# Altium schematic symbol library 16Z.SCHLIB: 43 symbols
Pins are listed as number, name and electrical type; pins without a type are passive.

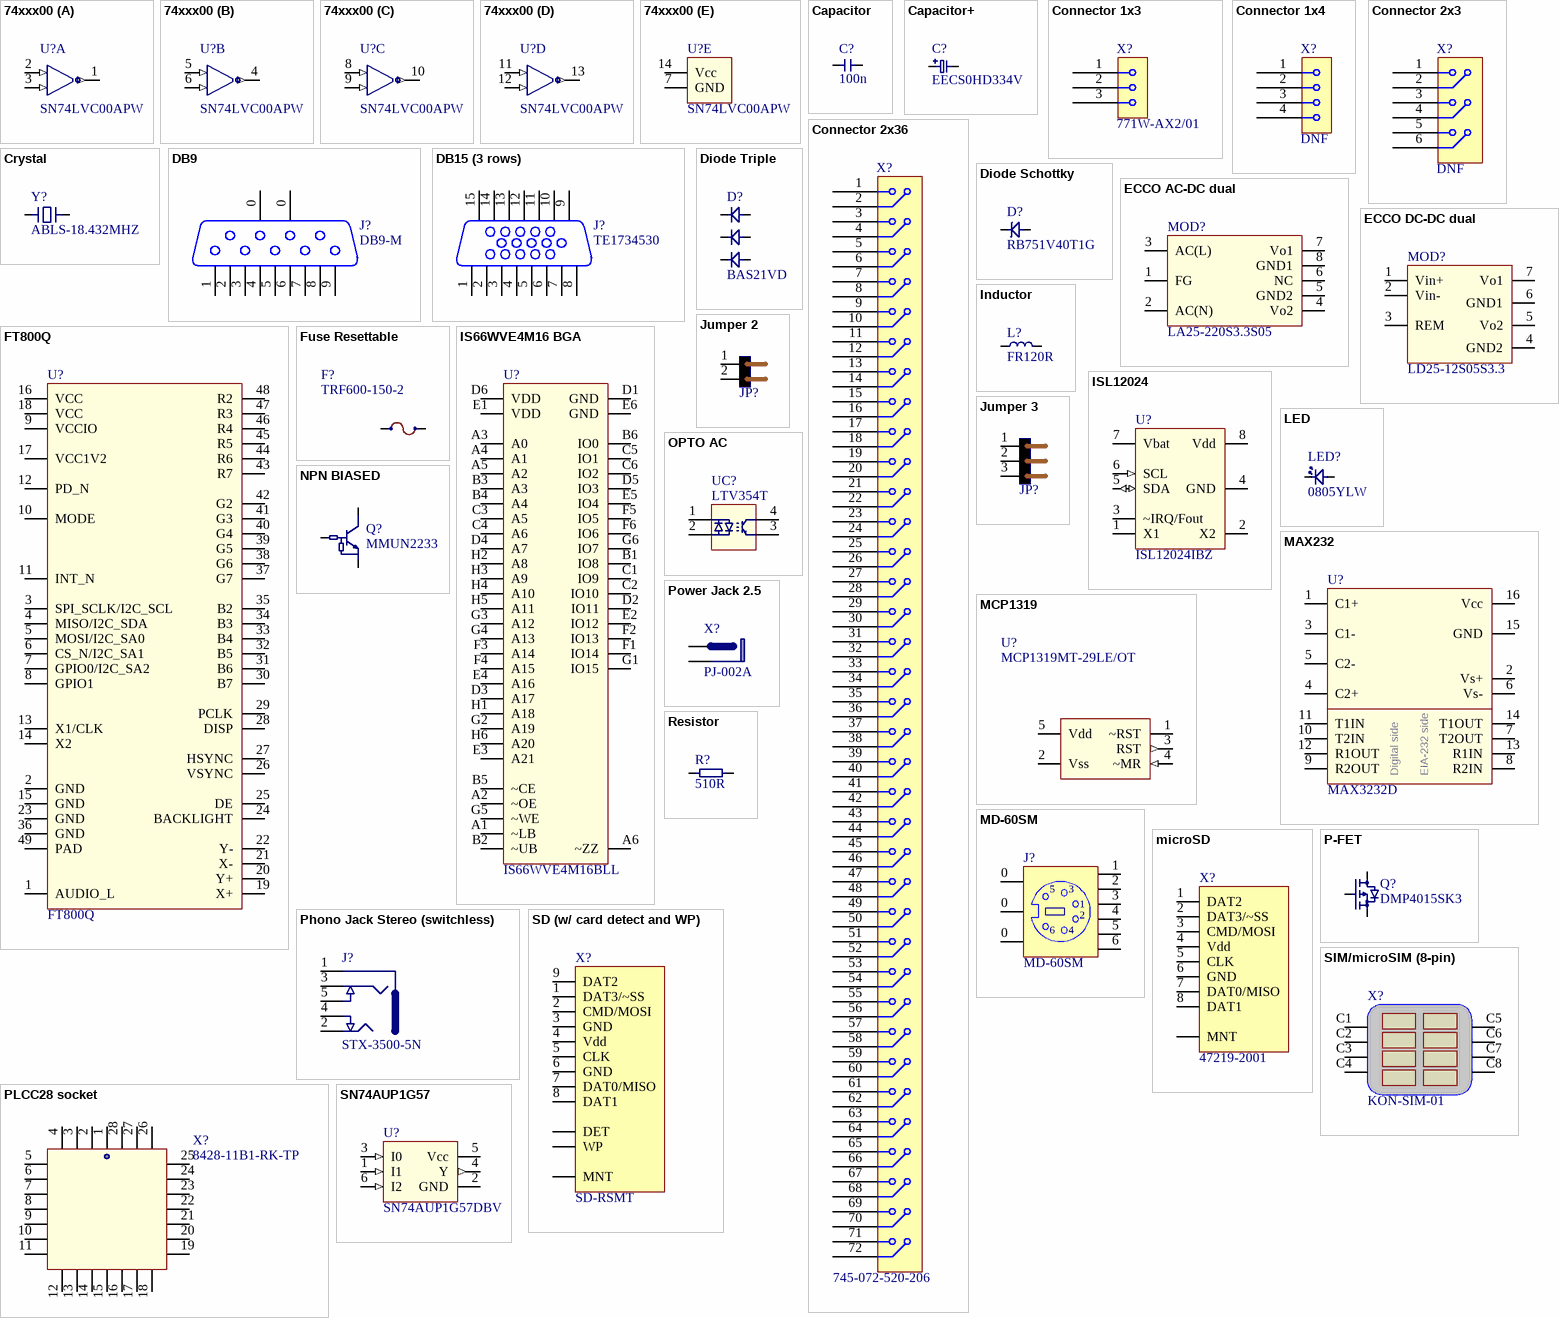
[diagram p0: symbols 74xxx00 to SN74AUP1G57]

## 74xxx00
designator U?, comment SN74LVC00APW
Quad NAND
footprint DIP14
footprint SOIC127P600-14N
footprint TSOP65P640-14N
part A pins: 1 (out), 2 (in), 3 (in)
part B pins: 4 (out), 5 (in), 6 (in)
part C pins: 8 (in), 9 (in), 10 (out)
part D pins: 11 (in), 12 (in), 13 (out)
part E pins: 7 GND, 14 Vcc

## Capacitor
designator C?, comment 100n
Capacitor
footprint _1206
footprint _0805
pins: 1, 2

## Capacitor+
designator C?, comment EECS0HD334V
Polar capacitor
footprint D10.5 x L5.5 (Cylindric capacitor)
pins: 1, 2
1 alternate drawing of the same symbol

## Connector 1x3
designator X?, comment 771W-AX2/01
Single row, 3-way connector
footprint 771W-AX2/01 (AC IEC connector)
pins: 1, 2, 3

## Connector 1x4
designator X?, comment DNF
Single row, 4-way connector
footprint 2011-1X04S (2011-1X04 Straight Pin Header)
pins: 1, 2, 3, 4

## Connector 2x3
designator X?, comment DNF
Dual row, 6-way connector
footprint 2011-2X03S (2011-2X03 Straight Pin Header)
pins: 1, 2, 3, 4, 5, 6

## Connector 2x36
designator X?, comment 745-072-520-206
Dual row, 72-way connector
footprint 745-072-520-206 (72-pin board edge slot)
pins: 1, 2, 3, 4, 5, 6, 7, 8, 9, 10, 11, 12, 13, 14, 15, 16, 17, 18, 19, 20, 21, 22, 23, 24, 25, 26, 27, 28, 29, 30, 31, 32, 33, 34, 35, 36, 37, 38, 39, 40, 41, 42, 43, 44, 45, 46, 47, 48, 49, 50, 51, 52, 53, 54, 55, 56, 57, 58, 59, 60, 61, 62, 63, 64, 65, 66, 67, 68, 69, 70, 71, 72

## Crystal
designator Y?, comment ABLS-18.432MHZ
Crystal Resonator
footprint HC49/SMT (Standard HC49/SMT footprint)
pins: 1, 2

## DB9
designator J?, comment DB9-M
DB9 connector
footprint DB9M R/A (9 Pin Male D-Sub Right Angle, Through hole Mounting)
pins: 0, 0, 1, 2, 3, 4, 5, 6, 7, 8, 9

## DB15 (3 rows)
designator J?, comment TE1734530
DB15 (3 rows) connector R/A
footprint DB15F R/A VGA (DB15F-VGA connector (TE 1734530))
pins: 1, 2, 3, 4, 5, 6, 7, 8, 9, 10, 11, 12, 13, 14, 15

## Diode Schottky
designator D?, comment RB751V40T1G
Schottky diode
footprint SOD-323 (MicroMELF)
pins: 1, 2

## Diode Triple
designator D?, comment BAS21VD
Diode (triple)
footprint SOT23-6 (SOT23-6 Package)
pins: 1, 2, 3, 4, 5, 6

## ECCO AC-DC dual
designator MOD?, comment LA25-220S3.3S05
Miniature AC/DC module; Manufacturer: ECCO; Options: 3V3, 5V, 6V, 9V, 12V, 15V, 18V, 24V, 48V; URL: www.eccoelec.com
footprint ECCO AC-DC (70x48) (AC/DC converter)
pins: 1 FG (power), 2 AC(N) (power), 3 AC(L) (power), 4 Vo2 (power), 5 GND2 (power), 6 NC (power), 7 Vo1 (power), 8 GND1 (power)

## ECCO DC-DC dual
designator MOD?, comment LD25-12S05S3.3
DC-DC converter isolated output with common ground and control; URL: www.eccoelec.com
footprint DC-DC (50.8x50.8) (DC-DC converter)
pins: 1 Vin+ (power), 2 Vin- (power), 3 REM, 4 GND2, 5 Vo2 (power), 6 GND1 (power), 7 Vo1 (power)

## FT800Q
designator U?
Embedded Video Engine; Manufacturer: FTDI; URL: http://www.ftdichip.com/EVE.htm
footprint QFN50P700X700-48W2N
pins: 1 AUDIO_L, 2 GND, 3 SPI_SCLK/I2C_SCL, 4 MISO/I2C_SDA, 5 MOSI/I2C_SA0, 6 CS_N/I2C_SA1, 7 GPIO0/I2C_SA2, 8 GPIO1, 9 VCCIO, 10 MODE, 11 INT_N, 12 PD_N, 13 X1/CLK, 14 X2, 15 GND, 16 VCC, 17 VCC1V2, 18 VCC, 19 X+, 20 Y+, 21 X-, 22 Y-, 23 GND, 24 BACKLIGHT, 25 DE, 26 VSYNC, 27 HSYNC, 28 DISP, 29 PCLK, 30 B7, 31 B6, 32 B5, 33 B4, 34 B3, 35 B2, 36 GND, 37 G7, 38 G6, 39 G5, 40 G4, 41 G3, 42 G2, 43 R7, 44 R6, 45 R5, 46 R4, 47 R3, 48 R2, 49 PAD

## Fuse Resettable
designator F?, comment TRF600-150-2
footprint Fuse 5.1mm pitch (Resettable fuse 5.1mm pitch)
pins: 1, 2

## Inductor
designator L?, comment FR120R
Inductor
footprint _0805
pins: 1, 2

## IS66WVE4M16 BGA
designator U?, comment IS66WVE4M16BLL
4M x 16 high speed asynchronous pseudostatic RAM; Suffix: BLL (BGA, high-speed); BLS (BGA, low-power)
footprint BGA75P6X8-48
pins: A1 ~LB, A2 ~OE, A3 A0, A4 A1, A5 A2, A6 ~ZZ, B1 IO8, B2 ~UB, B3 A3, B4 A4, B5 ~CE, B6 IO0, C1 IO9, C2 IO10, C3 A5, C4 A6, C5 IO1, C6 IO2, D1 GND, D2 IO11, D3 A17, D4 A7, D5 IO3, D6 VDD, E1 VDD, E2 IO12, E3 A21, E4 A16, E5 IO4, E6 GND, F1 IO14, F2 IO13, F3 A14, F4 A15, F5 IO5, F6 IO6, G1 IO15, G2 A19, G3 A12, G4 A13, G5 ~WE, G6 IO7, H1 A18, H2 A8, H3 A9, H4 A10, H5 A11, H6 A20

## ISL12024
designator U?, comment ISL12024IBZ
Real-Time Clock/Calendar with Embedded  Unique ID; Manufacturer: Intersil; Pin-compatible: ISL12026
footprint SOIC8 (SOIC8 Package)
pins: 1 X1, 2 X2, 3 ~IRQ/Fout (oc), 4 GND (power), 5 SDA (io), 6 SCL (in), 7 Vbat (power), 8 Vdd (power)

## Jumper 2
designator JP?, comment SIL2-M  (value not drawn)
2.54mm square pin header/jumper
footprint 2011-1X02S (2011-1X02 Straight Pin Header)
pins: 1, 2

## Jumper 3
designator JP?  (value not drawn)
2.54mm square pin header/jumper
footprint 2011-1X03S (2011-1X03 Straight Pin Header)
pins: 1, 2, 3

## LED
designator LED?, comment 0805YLW
Light Emitting Diode
footprint _0805+
pins: 1, 2

## MAX232
designator U?, comment MAX3232D
Dual EIA-232 drivers; Manufacturer: TI (and others); Package options: D (SOIC); N (DIP); DW (SOICW)
footprint DIP16
footprint SOIC16 (SOIC16 Package)
footprint SOIC127P760-16N
pins: 1 C1+, 2 Vs+, 3 C1-, 4 C2+, 5 C2-, 6 Vs-, 7 T2OUT, 8 R2IN, 9 R2OUT, 10 T2IN, 11 T1IN, 12 R1OUT, 13 R1IN, 14 T1OUT, 15 GND, 16 Vcc
text: Digital side; EIA-232 side

## MCP1319
designator U?, comment MCP1319MT-29LE/OT
Voltage Supervisor; Manufacturer: Microchip
footprint SOT23-5 (SOT23-5 Package)
pins: 1 ~RST (oc), 2 Vss (power), 3 RST (out), 4 ~MR (in), 5 Vdd (power)

## MD-60SM
designator J?
6-pin mini-DIN connector (female) PS/2
footprint MD-60SM (6-pin mini-DIN connector (female) PS/2)
pins: 0, 0, 0, 1, 2, 3, 4, 5, 6

## microSD
designator X?, comment 47219-2001
microSD card connector
footprint MOLEX_47219-2001 (microSD connector (hinge lid type))
pins: 0 MNT, 1 DAT2, 2 DAT3/~SS, 3 CMD/MOSI, 4 Vdd, 5 CLK, 6 GND, 7 DAT0/MISO, 8 DAT1

## NPN BIASED
designator Q?, comment MMUN2233
NPN biased bipolar transistor
footprint SOT23-3 (SOT23-3 Package)
pins: 1 B, 2 E, 3 C

## OPTO AC
designator UC?, comment LTV354T
Optocoupler AC
footprint SO4 (2.54mm pitch; 4.4mm body)
pins: 1, 2, 3, 4

## P-FET
designator Q?, comment DMP4015SK3
P-channel FET transistor
footprint TO252-3N
pins: 1 G, 2 S, 3 D

## Phono Jack Stereo (switchless)
designator J?, comment STX-3500-5N
Phono Jack (stereo)
footprint STX-3500 (3.5mm stereo audio jack)
pins: 1, 2, 3, 4, 5

## PLCC28 socket
designator X?, comment 8428-11B1-RK-TP
PLCC28 T/H socket
footprint PLCC28-T/H socket (8428-11B1-RK-TP)
pins: 1, 2, 3, 4, 5, 6, 7, 8, 9, 10, 11, 12, 13, 14, 15, 16, 17, 18, 19, 20, 21, 22, 23, 24, 25, 26, 27, 28

## Power Jack 2.5
designator X?, comment PJ-002A
Power Jack 2.1mm or 2.5mm
footprint KLD-0202 (KLD-0202-XX DC jack (RIGHT ANGLE))
pins: 1, 2

## Resistor
designator R?, comment 510R
Resistor
footprint _0805
pins: 1, 2

## SD (w/ card detect and WP)
designator X?, comment SD-RSMT
SD card connector
footprint SD-RSMT (3M: SD card push-push connector)
pins: 0 MNT, 1 DAT3/~SS, 2 CMD/MOSI, 3 GND, 4 Vdd, 5 CLK, 6 GND, 7 DAT0/MISO, 8 DAT1, 9 DAT2, DET, WP

## SIM/microSIM (8-pin)
designator X?, comment KON-SIM-01
SIM/microSIM 6-pin connector
footprint KON-SIM-01 (Open SIM connector)
pins: C1, C2, C3, C4, C5, C6, C7, C8

## SN74AUP1G57
designator U?, comment SN74AUP1G57DBV
Universal logic element; Manufacturer: Texas Instruments; NOTE:: Similar parts available: 1G58, 1G97, 1G98...
footprint SC70-6 (SC-70 package 2.2mm x 1.3mm (6-pin))
footprint SOT23-6 (SOT23-6 Package)
footprint SON6 (SON6 (1.4 x 1mm))
pins: 1 I1 (in), 2 GND (power), 3 I0 (in), 4 Y (out), 5 Vcc (power), 6 I2 (in)

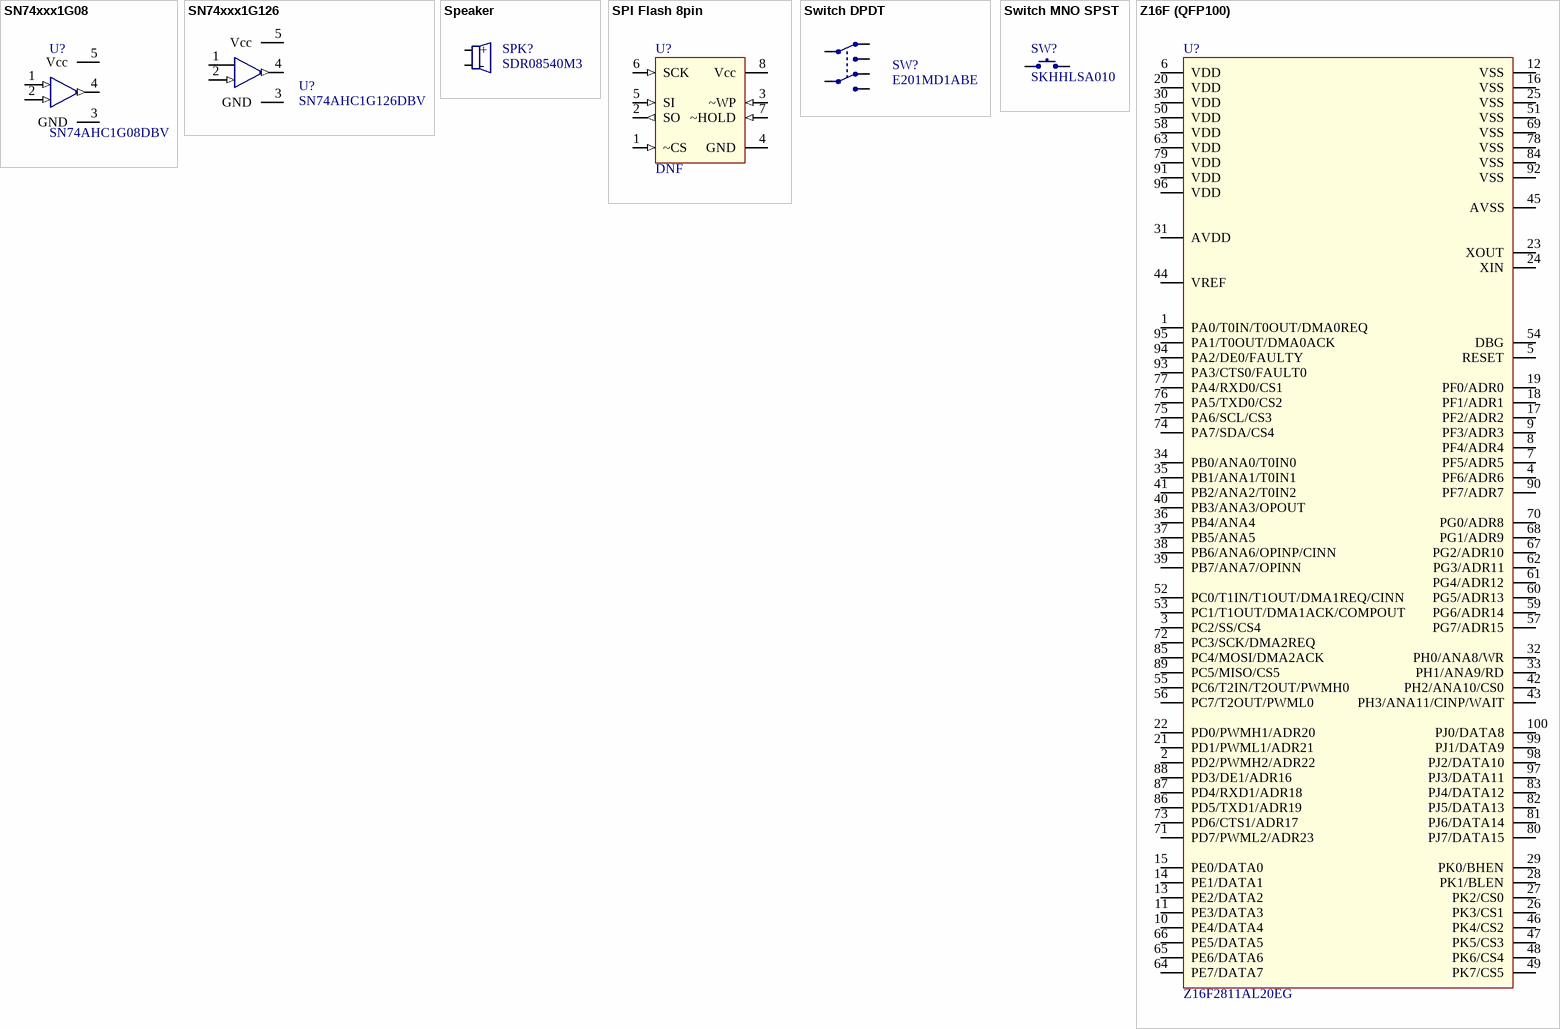
[diagram p1: symbols SN74xxx1G08 to Z16F (QFP100)]

## SN74xxx1G08
designator U?, comment SN74AHC1G08DBV
2-INPUT AND GATE; Manufacturer: Texas Instruments
footprint SOT23-5 (SOT23-5 Package)
footprint TSSOP50P310-8N
pins: 1 (in), 2 (in), 3 GND (power), 4 (out), 5 Vcc (power)

## SN74xxx1G126
designator U?, comment SN74AHC1G126DBV
Buffer gate with non-invertinng Enable input; Manufacturer: Texas Instruments
footprint SOT23-5 (SOT23-5 Package)
footprint TSSOP50P310-8N
pins: 1 OE, 2 A (in), 3 GND (power), 4 (out), 5 Vcc (power)

## Speaker
designator SPK?, comment SDR08540M3
Speaker/Buzzer
footprint SDR08540M3-01 (TDK: Electromagnetic Buzzers SMD Terminal SDR Series)
pins: 1 +, 2 -

## SPI Flash 8pin
designator U?, comment DNF
Standard 8-pin SPI flash memory
footprint SOIC127P600-8N
footprint SOIC127P760-8N
footprint TSSOP50P200X300-8L (SOJ, 8-Leads, Body 2.0x3.0mm (max), Pitch 0.50mm, IPC High Density)
pins: 1 ~CS (in), 2 SO (out), 3 ~WP (in), 4 GND (power), 5 SI (in), 6 SCK (in), 7 ~HOLD (in), 8 Vcc (power)

## Switch DPDT
designator SW?, comment E201MD1ABE
Switch
footprint E201MD1ABE (E series toggle switch (horizontal))
pins: 1, 2, 3, 4, 5, 6

## Switch MNO SPST
designator SW?, comment SKHHLSA010
Switch, Momentary, Normal Open
footprint SKHH-HORIZONTAL (ALPS SKHH series horizontal tactile switch 6x6x4.3mm)
pins: 1, 2

## Z16F (QFP100)
designator U?, comment Z16F2811AL20EG
16-bit microcontroller/microprocessor; Manufacturer: Zilog
footprint LQFP100 (0.5mm Pitch LQFP100 Package)
pins: 1 PA0/T0IN/T0OUT/DMA0REQ, 2 PD2/PWMH2/ADR22, 3 PC2/SS/CS4, 4 PF6/ADR6, 5 RESET, 6 VDD, 7 PF5/ADR5, 8 PF4/ADR4, 9 PF3/ADR3, 10 PE4/DATA4, 11 PE3/DATA3, 12 VSS, 13 PE2/DATA2, 14 PE1/DATA1, 15 PE0/DATA0, 16 VSS, 17 PF2/ADR2, 18 PF1/ADR1, 19 PF0/ADR0, 20 VDD, 21 PD1/PWML1/ADR21, 22 PD0/PWMH1/ADR20, 23 XOUT, 24 XIN, 25 VSS, 26 PK3/CS1, 27 PK2/CS0, 28 PK1/BLEN, 29 PK0/BHEN, 30 VDD, 31 AVDD, 32 PH0/ANA8/WR, 33 PH1/ANA9/RD, 34 PB0/ANA0/T0IN0, 35 PB1/ANA1/T0IN1, 36 PB4/ANA4, 37 PB5/ANA5, 38 PB6/ANA6/OPINP/CINN, 39 PB7/ANA7/OPINN, 40 PB3/ANA3/OPOUT, 41 PB2/ANA2/T0IN2, 42 PH2/ANA10/CS0, 43 PH3/ANA11/CINP/WAIT, 44 VREF, 45 AVSS, 46 PK4/CS2, 47 PK5/CS3, 48 PK6/CS4, 49 PK7/CS5, 50 VDD, 51 VSS, 52 PC0/T1IN/T1OUT/DMA1REQ/CINN, 53 PC1/T1OUT/DMA1ACK/COMPOUT, 54 DBG, 55 PC6/T2IN/T2OUT/PWMH0, 56 PC7/T2OUT/PWML0, 57 PG7/ADR15, 58 VDD, 59 PG6/ADR14, 60 PG5/ADR13, 61 PG4/ADR12, 62 PG3/ADR11, 63 VDD, 64 PE7/DATA7, 65 PE6/DATA6, 66 PE5/DATA5, 67 PG2/ADR10, 68 PG1/ADR9, 69 VSS, 70 PG0/ADR8, 71 PD7/PWML2/ADR23, 72 PC3/SCK/DMA2REQ, 73 PD6/CTS1/ADR17, 74 PA7/SDA/CS4, 75 PA6/SCL/CS3, 76 PA5/TXD0/CS2, 77 PA4/RXD0/CS1, 78 VSS, 79 VDD, 80 PJ7/DATA15, 81 PJ6/DATA14, 82 PJ5/DATA13, 83 PJ4/DATA12, 84 VSS, 85 PC4/MOSI/DMA2ACK, 86 PD5/TXD1/ADR19, 87 PD4/RXD1/ADR18, 88 PD3/DE1/ADR16, 89 PC5/MISO/CS5, 90 PF7/ADR7, 91 VDD, 92 VSS, 93 PA3/CTS0/FAULT0, 94 PA2/DE0/FAULTY, 95 PA1/T0OUT/DMA0ACK, 96 VDD, 97 PJ3/DATA11, 98 PJ2/DATA10, 99 PJ1/DATA9, 100 PJ0/DATA8